# Altium schematic symbol library COBITX_COBISHIL_schemlib.SchLib: 2 symbols
Pins are listed as number, name and electrical type; pins without a type are passive.

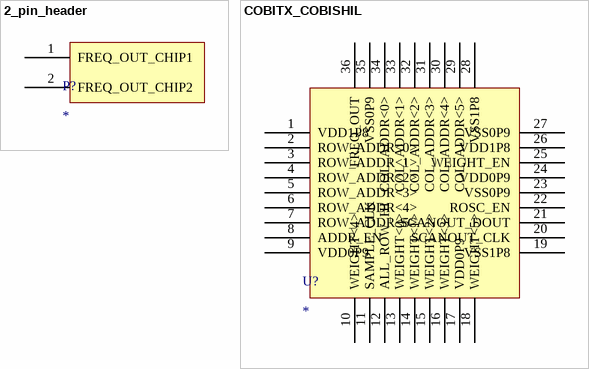
[diagram p0: symbols 2_pin_header to COBITX_COBISHIL]

## 2_pin_header
designator P?
pitch = 0.1"
footprint Model Name (Footprint not found)
footprint Model Name (Footprint not found)
pins: 1 FREQ_OUT_CHIP1, 2 FREQ_OUT_CHIP2

## COBITX_COBISHIL
designator U?
QFN-36
footprint QFN-36 w/o solder mask
pins: 1 VDD1P8, 2 ROW_ADDR<0>, 3 ROW_ADDR<1>, 4 ROW_ADDR<2>, 5 ROW_ADDR<3>, 6 ROW_ADDR<4>, 7 ROW_ADDR<5>, 8 ADDR_EN, 9 VDD0P9, 10 WEIGHT<4>, 11 SAMPLE_CLK, 12 ALL_ROW_HI, 13 WEIGHT<0>, 14 WEIGHT<1>, 15 WEIGHT<2>, 16 WEIGHT<3>, 17 VDD0P9, 18 WEIGHT<5>, 19 VSS1P8, 20 SCANOUT_CLK, 21 SCANOUT_DOUT, 22 ROSC_EN, 23 VSS0P9, 24 VDD0P9, 25 WEIGHT_EN, 26 VDD1P8, 27 VSS0P9, 28 VSS1P8, 29 COL_ADDR<5>, 30 COL_ADDR<4>, 31 COL_ADDR<3>, 32 COL_ADDR<2>, 33 COL_ADDR<1>, 34 COL_ADDR<0>, 35 VSS0P9, 36 FREQ_OUT